# EAGLE library part ADRX300 (library imu1)
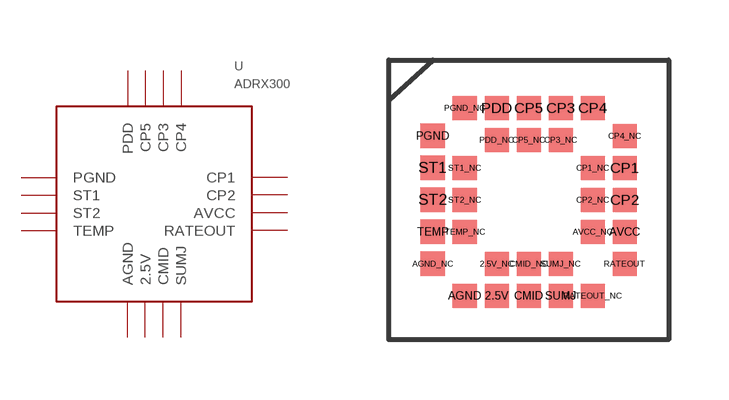
[diagram p1: symbol with the pads of ADRX300; footprint ADRX300]

Designator prefix -

## ADRX300  [ADRX300]
2.5V  2.5V
AGND  AGND
AVCC  AVCC
CMID  CMID
CP1  CP1
CP2  CP2
CP3  CP3
CP4  CP4
CP5  CP5
PDD  PDD
PGND  PGND
RATEOUT  RATEOUT
ST1  ST1
ST2  ST2
SUMJ  SUMJ
TEMP  TEMP

## Footprint ADRX300 (pad centres in mm)
smd 0.6 x 0.6: 2.5V 2.7,1.1; 2.5V_NC 2.7,1.9; AGND 1.9,1.1; AVCC 5.9,2.7; AVCC_NC 5.1,2.7; CMID 3.5,1.1; CMID_NC 3.5,1.9; CP1 5.9,4.3; CP1_NC 5.1,4.3; CP2 5.9,3.5; CP2_NC 5.1,3.5; CP3 4.3,5.8; CP3_NC 4.3,5; CP4 5.1,5.8; CP4_NC 5.9,5.1; CP5 3.5,5.8; CP5_NC 3.5,5; PDD 2.7,5.8; PDD_NC 2.7,5; PGND_NC 1.9,5.8; RATEOUT 5.9,1.9; RATEOUT_NC 5.1,1.1; ST1_NC 1.9,4.3; ST2_NC 1.9,3.5; SUMJ 4.3,1.1; SUMJ_NC 4.3,1.9; TEMP_NC 1.9,2.7
smd 0.61 x 0.61: AGND_NC 1.1,1.9; PGND 1.1,5.1; ST1 1.1,4.3; ST2 1.1,3.5; TEMP 1.1,2.7